# Altium integrated library ISSI SRAM Asynchronous SRAM Lower Power.IntLib: 204 symbols (part 6 of 9)
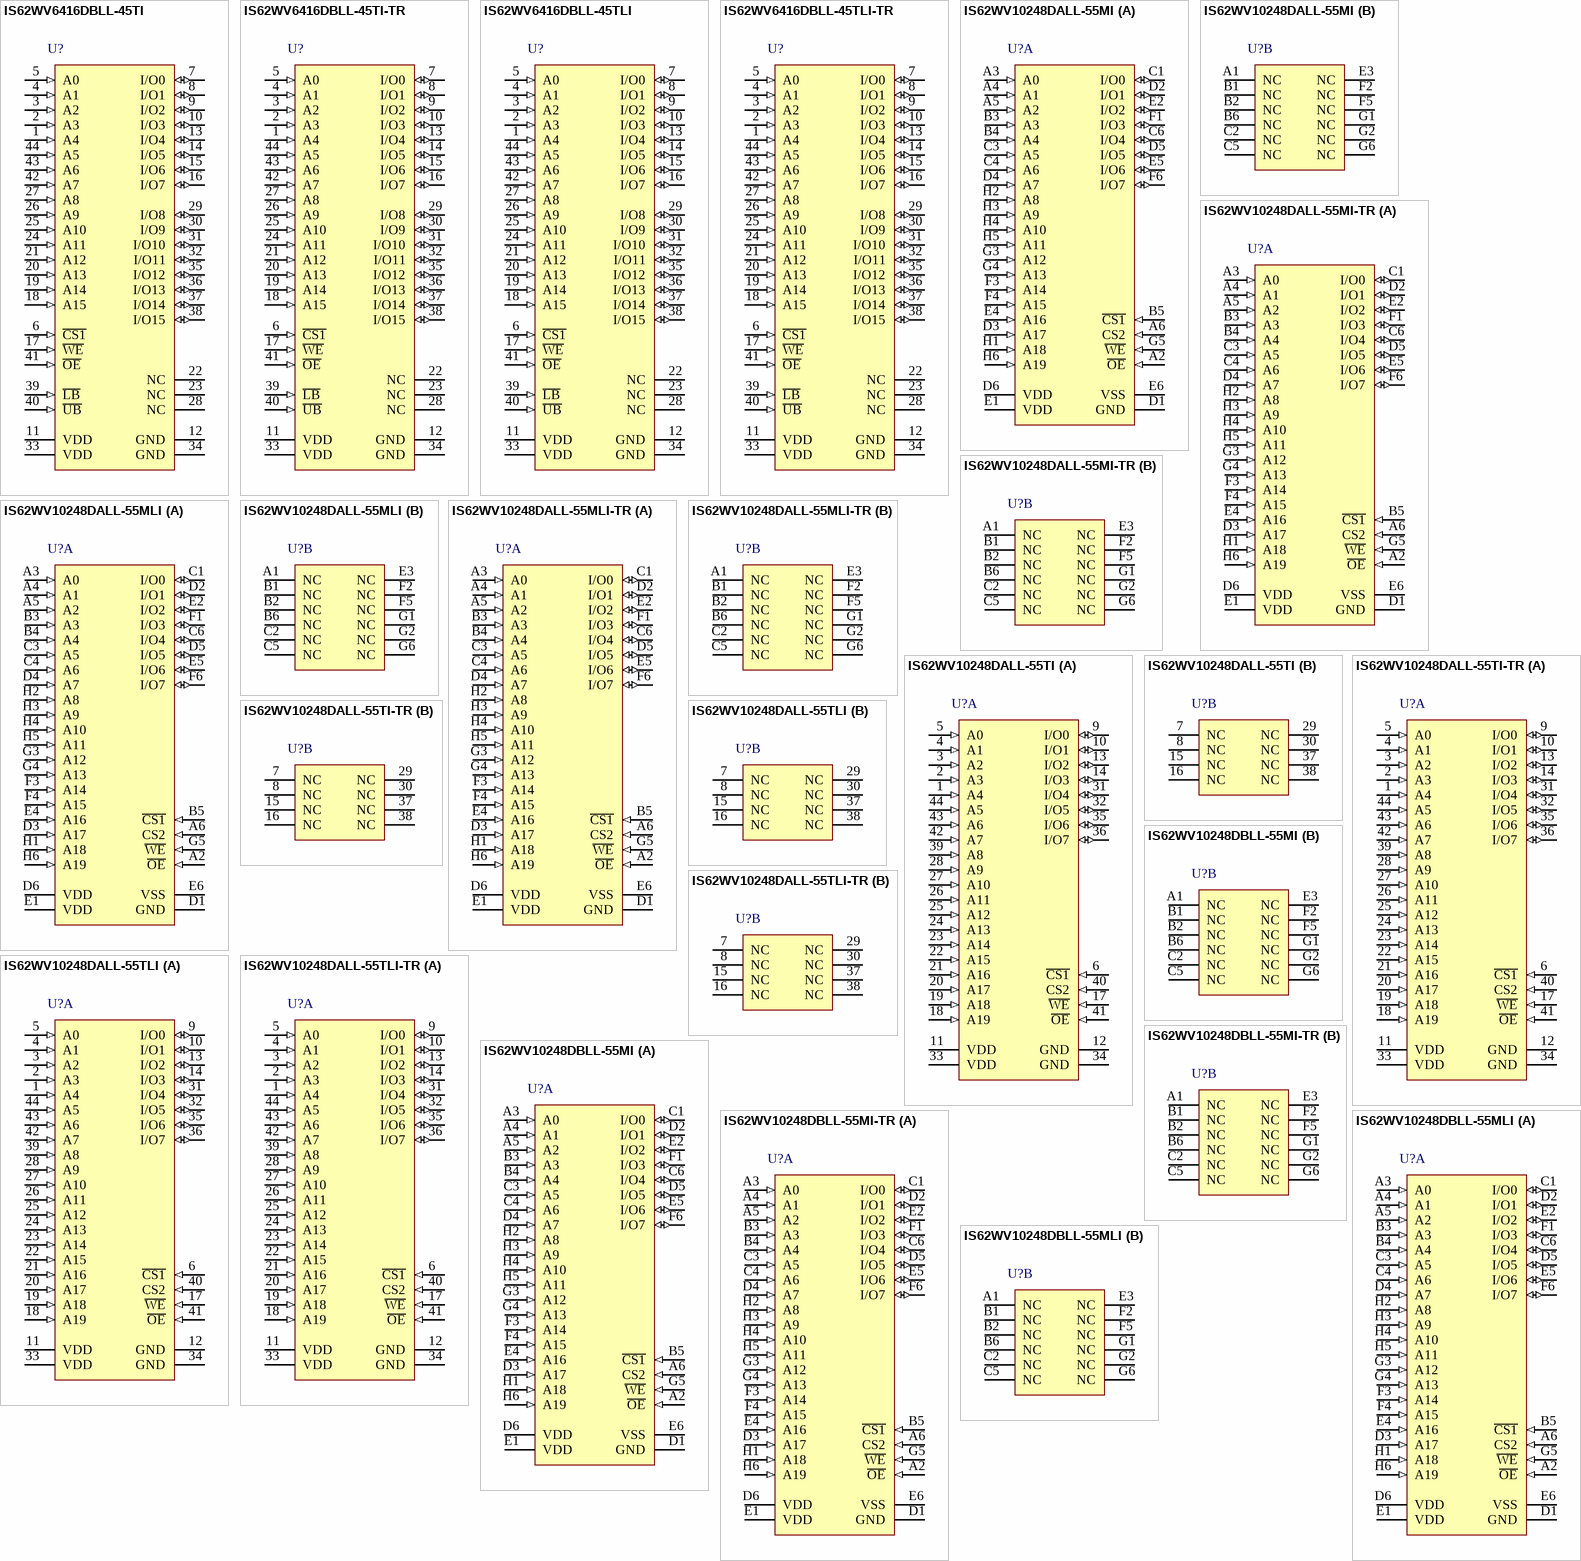
[diagram p16: symbols IS62WV6416DBLL-45TI to IS62WV10248DBLL-55MLI]

## IS62WV10248DALL-55TLI
designator U?
8 M Low Voltage, Ultra Low Power CMOS SRAM, 1 M x 8, -40 to 85 degC, 44-Pin SOP (TSOP-2-44), Pb-Free; Manufacturer: Integrated Silicon Solution Inc (ISSI); PartNumber: IS62WV10248DALL-55TLI; Density: 8M; Organization: 1M x 8; Packing: Tray / Tube; Speed (ns): 55; DatasheetVersion: Rev. A; PackageVersion: Rev. F, 06/2008; PackageReference: TSOP-2-44; PackageDescription: 44-Pin 400 mil TSOP-2, Body 18.41 x 10.16 mm, Pitch 0.8 mm; RoHS: Pb-Free; Mounting Technology: Surface Mount; ComponentLink1Description: Manufacturer URL; ComponentLink1URL: http://www.issi.com/US/index.shtml; ComponentLink2Description: Datasheet; ComponentLink2URL: http://www.issi.com/WW/pdf/62-65WV10248DALL-BLL.pdf; ComponentLink3Description: Package Specification; ComponentLink3URL: http://www.issi.com/WW/pdf/61-64WV6416EEBLL.pdf
footprint ISSI-TSOP-2-44_N (SOP, 44-Leads, Body 18.5x10.3mm, Pitch 0.8mm, IPC Medium Density)
part A pins: 1 A4 (in) "Address Input", 2 A3 (in) "Address Input", 3 A2 (in) "Address Input", 4 A1 (in) "Address Input", 5 A0 (in) "Address Input", 6 ~{CS1} (in) "Chip Enable 1 Input", 9 I/O0 (io) "Input/Output", 10 I/O1 (io) "Input/Output", 11 VDD (power) "Power", 12 GND (power) "Ground", 13 I/O2 (io) "Input/Output", 14 I/O3 (io) "Input/Output", 17 ~{WE} (in) "Write Enable Input", 18 A19 (in) "Address Input", 19 A18 (in) "Address Input", 20 A17 (in) "Address Input", 21 A16 (in) "Address Input", 22 A15 (in) "Address Input", 23 A14 (in) "Address Input", 24 A13 (in) "Address Input", 25 A12 (in) "Address Input", 26 A11 (in) "Address Input", 27 A10 (in) "Address Input", 28 A9 (in) "Address Input", 31 I/O4 (io) "Input/Output", 32 I/O5 (io) "Input/Output", 33 VDD (power) "Power", 34 GND (power) "Ground", 35 I/O6 (io) "Input/Output", 36 I/O7 (io) "Input/Output", 39 A8 (in) "Address Input", 40 CS2 (in) "Chip Enable 2 Input", 41 ~{OE} (in) "Output Enable Input", 42 A7 (in) "Address Input", 43 A6 (in) "Address Input", 44 A5 (in) "Address Input"
part B pins: 7 NC "No Connection", 8 NC "No Connection", 15 NC "No Connection", 16 NC "No Connection", 29 NC "No Connection", 30 NC "No Connection", 37 NC "No Connection", 38 NC "No Connection"

## IS62WV10248DALL-55TLI-TR
designator U?
8 M Low Voltage, Ultra Low Power CMOS SRAM, 1 M x 8, -40 to 85 degC, 44-Pin SOP (TSOP-2-44), Pb-Free; Manufacturer: Integrated Silicon Solution Inc (ISSI); PartNumber: IS62WV10248DALL-55TLI-TR; Density: 8M; Organization: 1M x 8; Packing: Tape & Reel; Speed (ns): 55; DatasheetVersion: Rev. A; PackageVersion: Rev. F, 06/2008; PackageReference: TSOP-2-44; PackageDescription: 44-Pin 400 mil TSOP-2, Body 18.41 x 10.16 mm, Pitch 0.8 mm; RoHS: Pb-Free; Mounting Technology: Surface Mount; ComponentLink1Description: Manufacturer URL; ComponentLink1URL: http://www.issi.com/US/index.shtml; ComponentLink2Description: Datasheet; ComponentLink2URL: http://www.issi.com/WW/pdf/62-65WV10248DALL-BLL.pdf; ComponentLink3Description: Package Specification; ComponentLink3URL: http://www.issi.com/WW/pdf/61-64WV6416EEBLL.pdf
footprint ISSI-TSOP-2-44_N (SOP, 44-Leads, Body 18.5x10.3mm, Pitch 0.8mm, IPC Medium Density)
part A pins: 1 A4 (in) "Address Input", 2 A3 (in) "Address Input", 3 A2 (in) "Address Input", 4 A1 (in) "Address Input", 5 A0 (in) "Address Input", 6 ~{CS1} (in) "Chip Enable 1 Input", 9 I/O0 (io) "Input/Output", 10 I/O1 (io) "Input/Output", 11 VDD (power) "Power", 12 GND (power) "Ground", 13 I/O2 (io) "Input/Output", 14 I/O3 (io) "Input/Output", 17 ~{WE} (in) "Write Enable Input", 18 A19 (in) "Address Input", 19 A18 (in) "Address Input", 20 A17 (in) "Address Input", 21 A16 (in) "Address Input", 22 A15 (in) "Address Input", 23 A14 (in) "Address Input", 24 A13 (in) "Address Input", 25 A12 (in) "Address Input", 26 A11 (in) "Address Input", 27 A10 (in) "Address Input", 28 A9 (in) "Address Input", 31 I/O4 (io) "Input/Output", 32 I/O5 (io) "Input/Output", 33 VDD (power) "Power", 34 GND (power) "Ground", 35 I/O6 (io) "Input/Output", 36 I/O7 (io) "Input/Output", 39 A8 (in) "Address Input", 40 CS2 (in) "Chip Enable 2 Input", 41 ~{OE} (in) "Output Enable Input", 42 A7 (in) "Address Input", 43 A6 (in) "Address Input", 44 A5 (in) "Address Input"
part B pins: 7 NC "No Connection", 8 NC "No Connection", 15 NC "No Connection", 16 NC "No Connection", 29 NC "No Connection", 30 NC "No Connection", 37 NC "No Connection", 38 NC "No Connection"

## IS62WV10248DBLL-55MI
designator U?
8 M Low Voltage, Ultra Low Power CMOS SRAM, 1 M x 8, -40 to 85 degC, 48-Pin BGA (TF-BGA-48); Manufacturer: Integrated Silicon Solution Inc (ISSI); PartNumber: IS62WV10248DBLL-55MI; Density: 8M; Organization: 1M x 8; Packing: Tray / Tube; Speed (ns): 55; DatasheetVersion: Rev. A; PackageVersion: Rev. B, 08/2008; PackageReference: TF-BGA-48; PackageDescription: 48-Pin 9 x 11 mm TF-BGA, Pitch 0.75 mm; Mounting Technology: Surface Mount; Code_JEDEC: MO-207; ComponentLink1Description: Manufacturer URL; ComponentLink1URL: http://www.issi.com/US/index.shtml; ComponentLink2Description: Datasheet; ComponentLink2URL: http://www.issi.com/WW/pdf/62-65WV10248DALL-BLL.pdf; ComponentLink3Description: Package Specification; ComponentLink3URL: http://www.issi.com/WW/pdf/61-64WV51216.pdf
footprint ISSI-TF-BGA-48-9000x11000DE (BGA, 48-Balls, Body 11x9mm, Pitch 0.75mm)
part A pins: A2 ~{OE} (in) "Output Enable Input", A3 A0 (in) "Address Input", A4 A1 (in) "Address Input", A5 A2 (in) "Address Input", A6 CS2 (in) "Chip Enable 2 Input", B3 A3 (in) "Address Input", B4 A4 (in) "Address Input", B5 ~{CS1} (in) "Chip Enable 1 Input", C1 I/O0 (io) "Input/Output", C3 A5 (in) "Address Input", C4 A6 (in) "Address Input", C6 I/O4 (io) "Input/Output", D1 GND (power) "Ground", D2 I/O1 (io) "Input/Output", D3 A17 (in) "Address Input", D4 A7 (in) "Address Input", D5 I/O5 (io) "Input/Output", D6 VDD (power) "Power", E1 VDD (power) "Power", E2 I/O2 (io) "Input/Output", E4 A16 (in) "Address Input", E5 I/O6 (io) "Input/Output", E6 VSS (power), F1 I/O3 (io) "Input/Output", F3 A14 (in) "Address Input", F4 A15 (in) "Address Input", F6 I/O7 (io) "Input/Output", G3 A12 (in) "Address Input", G4 A13 (in) "Address Input", G5 ~{WE} (in) "Write Enable Input", H1 A18 (in) "Address Input", H2 A8 (in) "Address Input", H3 A9 (in) "Address Input", H4 A10 (in) "Address Input", H5 A11 (in) "Address Input", H6 A19 (in) "Address Input"
part B pins: A1 NC "No Connection", B1 NC "No Connection", B2 NC "No Connection", B6 NC "No Connection", C2 NC "No Connection", C5 NC "No Connection", E3 NC "No Connection", F2 NC "No Connection", F5 NC "No Connection", G1 NC "No Connection", G2 NC "No Connection", G6 NC "No Connection"

## IS62WV10248DBLL-55MI-TR
designator U?
8 M Low Voltage, Ultra Low Power CMOS SRAM, 1 M x 8, -40 to 85 degC, 48-Pin BGA (TF-BGA-48); Manufacturer: Integrated Silicon Solution Inc (ISSI); PartNumber: IS62WV10248DBLL-55MI-TR; Density: 8M; Organization: 1M x 8; Packing: Tape & Reel; Speed (ns): 55; DatasheetVersion: Rev. A; PackageVersion: Rev. B, 08/2008; PackageReference: TF-BGA-48; PackageDescription: 48-Pin 9 x 11 mm TF-BGA, Pitch 0.75 mm; Mounting Technology: Surface Mount; Code_JEDEC: MO-207; ComponentLink1Description: Manufacturer URL; ComponentLink1URL: http://www.issi.com/US/index.shtml; ComponentLink2Description: Datasheet; ComponentLink2URL: http://www.issi.com/WW/pdf/62-65WV10248DALL-BLL.pdf; ComponentLink3Description: Package Specification; ComponentLink3URL: http://www.issi.com/WW/pdf/61-64WV51216.pdf
footprint ISSI-TF-BGA-48-9000x11000DE (BGA, 48-Balls, Body 11x9mm, Pitch 0.75mm)
part A pins: A2 ~{OE} (in) "Output Enable Input", A3 A0 (in) "Address Input", A4 A1 (in) "Address Input", A5 A2 (in) "Address Input", A6 CS2 (in) "Chip Enable 2 Input", B3 A3 (in) "Address Input", B4 A4 (in) "Address Input", B5 ~{CS1} (in) "Chip Enable 1 Input", C1 I/O0 (io) "Input/Output", C3 A5 (in) "Address Input", C4 A6 (in) "Address Input", C6 I/O4 (io) "Input/Output", D1 GND (power) "Ground", D2 I/O1 (io) "Input/Output", D3 A17 (in) "Address Input", D4 A7 (in) "Address Input", D5 I/O5 (io) "Input/Output", D6 VDD (power) "Power", E1 VDD (power) "Power", E2 I/O2 (io) "Input/Output", E4 A16 (in) "Address Input", E5 I/O6 (io) "Input/Output", E6 VSS (power), F1 I/O3 (io) "Input/Output", F3 A14 (in) "Address Input", F4 A15 (in) "Address Input", F6 I/O7 (io) "Input/Output", G3 A12 (in) "Address Input", G4 A13 (in) "Address Input", G5 ~{WE} (in) "Write Enable Input", H1 A18 (in) "Address Input", H2 A8 (in) "Address Input", H3 A9 (in) "Address Input", H4 A10 (in) "Address Input", H5 A11 (in) "Address Input", H6 A19 (in) "Address Input"
part B pins: A1 NC "No Connection", B1 NC "No Connection", B2 NC "No Connection", B6 NC "No Connection", C2 NC "No Connection", C5 NC "No Connection", E3 NC "No Connection", F2 NC "No Connection", F5 NC "No Connection", G1 NC "No Connection", G2 NC "No Connection", G6 NC "No Connection"

## IS62WV10248DBLL-55MLI
designator U?
8 M Low Voltage, Ultra Low Power CMOS SRAM, 1 M x 8, -40 to 85 degC, 48-Pin BGA (TF-BGA-48), Pb-Free; Manufacturer: Integrated Silicon Solution Inc (ISSI); PartNumber: IS62WV10248DBLL-55MLI; Density: 8M; Organization: 1M x 8; Packing: Tray / Tube; Speed (ns): 55; DatasheetVersion: Rev. A; PackageVersion: Rev. B, 08/2008; PackageReference: TF-BGA-48; PackageDescription: 48-Pin 9 x 11 mm TF-BGA, Pitch 0.75 mm; Supplier 1: Mouser; Supplier Part Number 1: 870-62WV10248DB5MLI; RoHS: Pb-Free; Mounting Technology: Surface Mount; Code_JEDEC: MO-207; ComponentLink1Description: Manufacturer URL; ComponentLink1URL: http://www.issi.com/US/index.shtml; ComponentLink2Description: Datasheet; ComponentLink2URL: http://www.issi.com/WW/pdf/62-65WV10248DALL-BLL.pdf; ComponentLink3Description: Package Specification; ComponentLink3URL: http://www.issi.com/WW/pdf/61-64WV51216.pdf
footprint ISSI-TF-BGA-48-9000x11000DE (BGA, 48-Balls, Body 11x9mm, Pitch 0.75mm)
part A pins: A2 ~{OE} (in) "Output Enable Input", A3 A0 (in) "Address Input", A4 A1 (in) "Address Input", A5 A2 (in) "Address Input", A6 CS2 (in) "Chip Enable 2 Input", B3 A3 (in) "Address Input", B4 A4 (in) "Address Input", B5 ~{CS1} (in) "Chip Enable 1 Input", C1 I/O0 (io) "Input/Output", C3 A5 (in) "Address Input", C4 A6 (in) "Address Input", C6 I/O4 (io) "Input/Output", D1 GND (power) "Ground", D2 I/O1 (io) "Input/Output", D3 A17 (in) "Address Input", D4 A7 (in) "Address Input", D5 I/O5 (io) "Input/Output", D6 VDD (power) "Power", E1 VDD (power) "Power", E2 I/O2 (io) "Input/Output", E4 A16 (in) "Address Input", E5 I/O6 (io) "Input/Output", E6 VSS (power), F1 I/O3 (io) "Input/Output", F3 A14 (in) "Address Input", F4 A15 (in) "Address Input", F6 I/O7 (io) "Input/Output", G3 A12 (in) "Address Input", G4 A13 (in) "Address Input", G5 ~{WE} (in) "Write Enable Input", H1 A18 (in) "Address Input", H2 A8 (in) "Address Input", H3 A9 (in) "Address Input", H4 A10 (in) "Address Input", H5 A11 (in) "Address Input", H6 A19 (in) "Address Input"
part B pins: A1 NC "No Connection", B1 NC "No Connection", B2 NC "No Connection", B6 NC "No Connection", C2 NC "No Connection", C5 NC "No Connection", E3 NC "No Connection", F2 NC "No Connection", F5 NC "No Connection", G1 NC "No Connection", G2 NC "No Connection", G6 NC "No Connection"

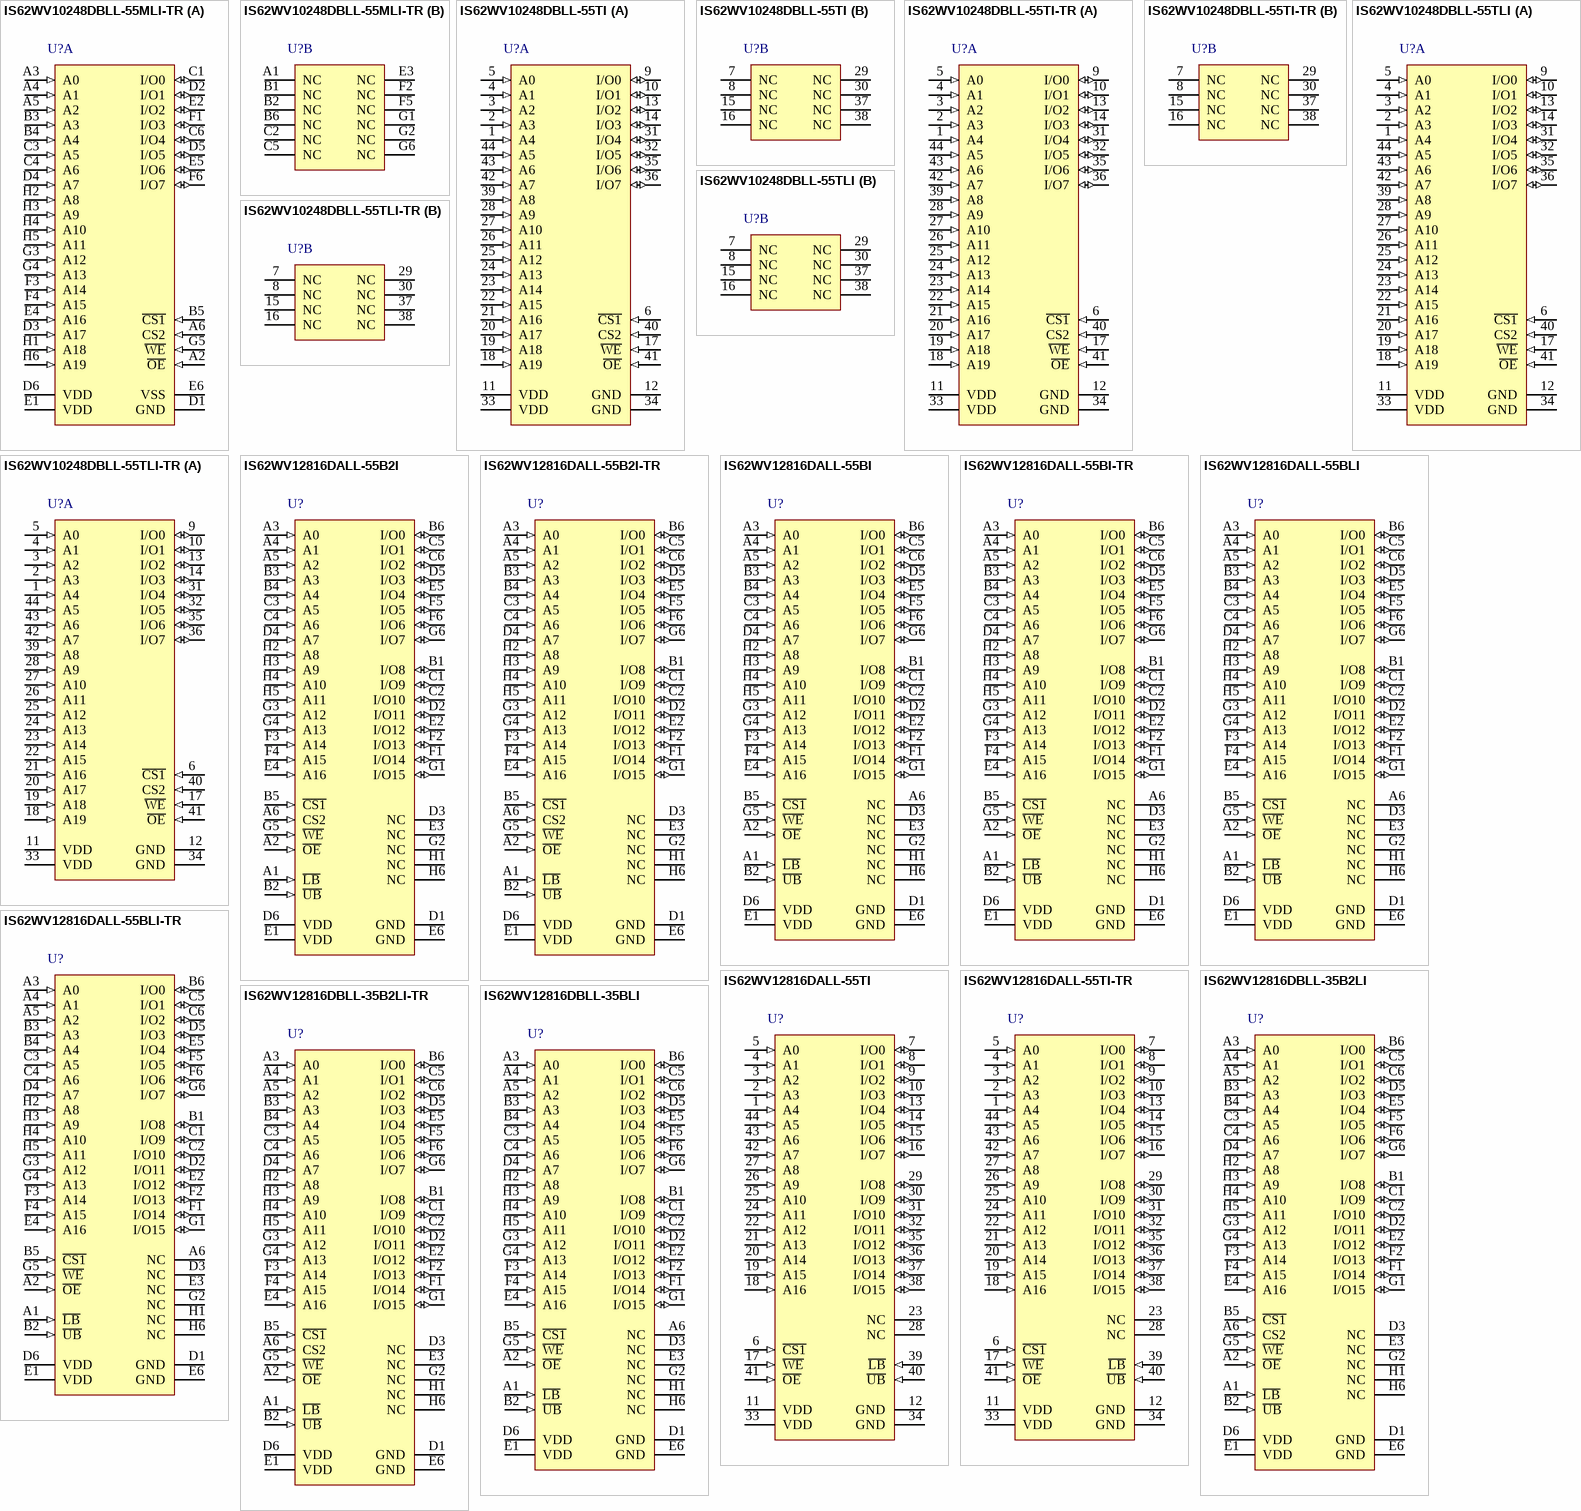
[diagram p7: symbols IS62WV10248DBLL-55MLI-TR to IS62WV12816DBLL-35BLI]

## IS62WV10248DBLL-55MLI-TR
designator U?
8 M Low Voltage, Ultra Low Power CMOS SRAM, 1 M x 8, -40 to 85 degC, 48-Pin BGA (TF-BGA-48), Pb-Free; Manufacturer: Integrated Silicon Solution Inc (ISSI); PartNumber: IS62WV10248DBLL-55MLI-TR; Density: 8M; Organization: 1M x 8; Packing: Tape & Reel; Speed (ns): 55; DatasheetVersion: Rev. A; PackageVersion: Rev. B, 08/2008; PackageReference: TF-BGA-48; PackageDescription: 48-Pin 9 x 11 mm TF-BGA, Pitch 0.75 mm; Supplier 1: Newark; Supplier Part Number 1: 71R6409; Supplier 2: Mouser; Supplier Part Number 2: 87062WV10248DB55MLIT; RoHS: Pb-Free; Mounting Technology: Surface Mount; Code_JEDEC: MO-207; ComponentLink1Description: Manufacturer URL; ComponentLink1URL: http://www.issi.com/US/index.shtml; ComponentLink2Description: Datasheet; ComponentLink2URL: http://www.issi.com/WW/pdf/62-65WV10248DALL-BLL.pdf; ComponentLink3Description: Package Specification; ComponentLink3URL: http://www.issi.com/WW/pdf/61-64WV51216.pdf
footprint ISSI-TF-BGA-48-9000x11000DE (BGA, 48-Balls, Body 11x9mm, Pitch 0.75mm)
part A pins: A2 ~{OE} (in) "Output Enable Input", A3 A0 (in) "Address Input", A4 A1 (in) "Address Input", A5 A2 (in) "Address Input", A6 CS2 (in) "Chip Enable 2 Input", B3 A3 (in) "Address Input", B4 A4 (in) "Address Input", B5 ~{CS1} (in) "Chip Enable 1 Input", C1 I/O0 (io) "Input/Output", C3 A5 (in) "Address Input", C4 A6 (in) "Address Input", C6 I/O4 (io) "Input/Output", D1 GND (power) "Ground", D2 I/O1 (io) "Input/Output", D3 A17 (in) "Address Input", D4 A7 (in) "Address Input", D5 I/O5 (io) "Input/Output", D6 VDD (power) "Power", E1 VDD (power) "Power", E2 I/O2 (io) "Input/Output", E4 A16 (in) "Address Input", E5 I/O6 (io) "Input/Output", E6 VSS (power), F1 I/O3 (io) "Input/Output", F3 A14 (in) "Address Input", F4 A15 (in) "Address Input", F6 I/O7 (io) "Input/Output", G3 A12 (in) "Address Input", G4 A13 (in) "Address Input", G5 ~{WE} (in) "Write Enable Input", H1 A18 (in) "Address Input", H2 A8 (in) "Address Input", H3 A9 (in) "Address Input", H4 A10 (in) "Address Input", H5 A11 (in) "Address Input", H6 A19 (in) "Address Input"
part B pins: A1 NC "No Connection", B1 NC "No Connection", B2 NC "No Connection", B6 NC "No Connection", C2 NC "No Connection", C5 NC "No Connection", E3 NC "No Connection", F2 NC "No Connection", F5 NC "No Connection", G1 NC "No Connection", G2 NC "No Connection", G6 NC "No Connection"

## IS62WV10248DBLL-55TI
designator U?
8 M Low Voltage, Ultra Low Power CMOS SRAM, 1 M x 8, -40 to 85 degC, 44-Pin SOP (TSOP-2-44); Manufacturer: Integrated Silicon Solution Inc (ISSI); PartNumber: IS62WV10248DBLL-55TI; Density: 8M; Organization: 1M x 8; Packing: Tray / Tube; Speed (ns): 55; DatasheetVersion: Rev. A; PackageVersion: Rev. F, 06/2008; PackageReference: TSOP-2-44; PackageDescription: 44-Pin 400 mil TSOP-2, Body 18.41 x 10.16 mm, Pitch 0.8 mm; Mounting Technology: Surface Mount; ComponentLink1Description: Manufacturer URL; ComponentLink1URL: http://www.issi.com/US/index.shtml; ComponentLink2Description: Datasheet; ComponentLink2URL: http://www.issi.com/WW/pdf/62-65WV10248DALL-BLL.pdf; ComponentLink3Description: Package Specification; ComponentLink3URL: http://www.issi.com/WW/pdf/61-64WV6416EEBLL.pdf
footprint ISSI-TSOP-2-44_N (SOP, 44-Leads, Body 18.5x10.3mm, Pitch 0.8mm, IPC Medium Density)
part A pins: 1 A4 (in) "Address Input", 2 A3 (in) "Address Input", 3 A2 (in) "Address Input", 4 A1 (in) "Address Input", 5 A0 (in) "Address Input", 6 ~{CS1} (in) "Chip Enable 1 Input", 9 I/O0 (io) "Input/Output", 10 I/O1 (io) "Input/Output", 11 VDD (power) "Power", 12 GND (power) "Ground", 13 I/O2 (io) "Input/Output", 14 I/O3 (io) "Input/Output", 17 ~{WE} (in) "Write Enable Input", 18 A19 (in) "Address Input", 19 A18 (in) "Address Input", 20 A17 (in) "Address Input", 21 A16 (in) "Address Input", 22 A15 (in) "Address Input", 23 A14 (in) "Address Input", 24 A13 (in) "Address Input", 25 A12 (in) "Address Input", 26 A11 (in) "Address Input", 27 A10 (in) "Address Input", 28 A9 (in) "Address Input", 31 I/O4 (io) "Input/Output", 32 I/O5 (io) "Input/Output", 33 VDD (power) "Power", 34 GND (power) "Ground", 35 I/O6 (io) "Input/Output", 36 I/O7 (io) "Input/Output", 39 A8 (in) "Address Input", 40 CS2 (in) "Chip Enable 2 Input", 41 ~{OE} (in) "Output Enable Input", 42 A7 (in) "Address Input", 43 A6 (in) "Address Input", 44 A5 (in) "Address Input"
part B pins: 7 NC "No Connection", 8 NC "No Connection", 15 NC "No Connection", 16 NC "No Connection", 29 NC "No Connection", 30 NC "No Connection", 37 NC "No Connection", 38 NC "No Connection"

## IS62WV10248DBLL-55TI-TR
designator U?
8 M Low Voltage, Ultra Low Power CMOS SRAM, 1 M x 8, -40 to 85 degC, 44-Pin SOP (TSOP-2-44); Manufacturer: Integrated Silicon Solution Inc (ISSI); PartNumber: IS62WV10248DBLL-55TI-TR; Density: 8M; Organization: 1M x 8; Packing: Tape & Reel; Speed (ns): 55; DatasheetVersion: Rev. A; PackageVersion: Rev. F, 06/2008; PackageReference: TSOP-2-44; PackageDescription: 44-Pin 400 mil TSOP-2, Body 18.41 x 10.16 mm, Pitch 0.8 mm; Mounting Technology: Surface Mount; ComponentLink1Description: Manufacturer URL; ComponentLink1URL: http://www.issi.com/US/index.shtml; ComponentLink2Description: Datasheet; ComponentLink2URL: http://www.issi.com/WW/pdf/62-65WV10248DALL-BLL.pdf; ComponentLink3Description: Package Specification; ComponentLink3URL: http://www.issi.com/WW/pdf/61-64WV6416EEBLL.pdf
footprint ISSI-TSOP-2-44_N (SOP, 44-Leads, Body 18.5x10.3mm, Pitch 0.8mm, IPC Medium Density)
part A pins: 1 A4 (in) "Address Input", 2 A3 (in) "Address Input", 3 A2 (in) "Address Input", 4 A1 (in) "Address Input", 5 A0 (in) "Address Input", 6 ~{CS1} (in) "Chip Enable 1 Input", 9 I/O0 (io) "Input/Output", 10 I/O1 (io) "Input/Output", 11 VDD (power) "Power", 12 GND (power) "Ground", 13 I/O2 (io) "Input/Output", 14 I/O3 (io) "Input/Output", 17 ~{WE} (in) "Write Enable Input", 18 A19 (in) "Address Input", 19 A18 (in) "Address Input", 20 A17 (in) "Address Input", 21 A16 (in) "Address Input", 22 A15 (in) "Address Input", 23 A14 (in) "Address Input", 24 A13 (in) "Address Input", 25 A12 (in) "Address Input", 26 A11 (in) "Address Input", 27 A10 (in) "Address Input", 28 A9 (in) "Address Input", 31 I/O4 (io) "Input/Output", 32 I/O5 (io) "Input/Output", 33 VDD (power) "Power", 34 GND (power) "Ground", 35 I/O6 (io) "Input/Output", 36 I/O7 (io) "Input/Output", 39 A8 (in) "Address Input", 40 CS2 (in) "Chip Enable 2 Input", 41 ~{OE} (in) "Output Enable Input", 42 A7 (in) "Address Input", 43 A6 (in) "Address Input", 44 A5 (in) "Address Input"
part B pins: 7 NC "No Connection", 8 NC "No Connection", 15 NC "No Connection", 16 NC "No Connection", 29 NC "No Connection", 30 NC "No Connection", 37 NC "No Connection", 38 NC "No Connection"

## IS62WV10248DBLL-55TLI
designator U?
8 M Low Voltage, Ultra Low Power CMOS SRAM, 1 M x 8, -40 to 85 degC, 44-Pin SOP (TSOP-2-44), Pb-Free; Manufacturer: Integrated Silicon Solution Inc (ISSI); PartNumber: IS62WV10248DBLL-55TLI; Density: 8M; Organization: 1M x 8; Packing: Tray / Tube; Speed (ns): 55; DatasheetVersion: Rev. A; PackageVersion: Rev. F, 06/2008; PackageReference: TSOP-2-44; PackageDescription: 44-Pin 400 mil TSOP-2, Body 18.41 x 10.16 mm, Pitch 0.8 mm; Supplier 1: Digi-Key; Supplier Part Number 1: 706-1149-ND; Supplier 2: Farnell; Supplier Part Number 2: 2253834; Supplier 3: Newark; Supplier Part Number 3: 53W9310; Supplier 4: Mouser; Supplier Part Number 4: 870-62WV10248DB55TLI; RoHS: Pb-Free; Mounting Technology: Surface Mount; ComponentLink1Description: Manufacturer URL; ComponentLink1URL: http://www.issi.com/US/index.shtml; ComponentLink2Description: Datasheet; ComponentLink2URL: http://www.issi.com/WW/pdf/62-65WV10248DALL-BLL.pdf; ComponentLink3Description: Package Specification; ComponentLink3URL: http://www.issi.com/WW/pdf/61-64WV6416EEBLL.pdf
footprint ISSI-TSOP-2-44_N (SOP, 44-Leads, Body 18.5x10.3mm, Pitch 0.8mm, IPC Medium Density)
part A pins: 1 A4 (in) "Address Input", 2 A3 (in) "Address Input", 3 A2 (in) "Address Input", 4 A1 (in) "Address Input", 5 A0 (in) "Address Input", 6 ~{CS1} (in) "Chip Enable 1 Input", 9 I/O0 (io) "Input/Output", 10 I/O1 (io) "Input/Output", 11 VDD (power) "Power", 12 GND (power) "Ground", 13 I/O2 (io) "Input/Output", 14 I/O3 (io) "Input/Output", 17 ~{WE} (in) "Write Enable Input", 18 A19 (in) "Address Input", 19 A18 (in) "Address Input", 20 A17 (in) "Address Input", 21 A16 (in) "Address Input", 22 A15 (in) "Address Input", 23 A14 (in) "Address Input", 24 A13 (in) "Address Input", 25 A12 (in) "Address Input", 26 A11 (in) "Address Input", 27 A10 (in) "Address Input", 28 A9 (in) "Address Input", 31 I/O4 (io) "Input/Output", 32 I/O5 (io) "Input/Output", 33 VDD (power) "Power", 34 GND (power) "Ground", 35 I/O6 (io) "Input/Output", 36 I/O7 (io) "Input/Output", 39 A8 (in) "Address Input", 40 CS2 (in) "Chip Enable 2 Input", 41 ~{OE} (in) "Output Enable Input", 42 A7 (in) "Address Input", 43 A6 (in) "Address Input", 44 A5 (in) "Address Input"
part B pins: 7 NC "No Connection", 8 NC "No Connection", 15 NC "No Connection", 16 NC "No Connection", 29 NC "No Connection", 30 NC "No Connection", 37 NC "No Connection", 38 NC "No Connection"

## IS62WV10248DBLL-55TLI-TR
designator U?
8 M Low Voltage, Ultra Low Power CMOS SRAM, 1 M x 8, -40 to 85 degC, 44-Pin SOP (TSOP-2-44), Pb-Free; Manufacturer: Integrated Silicon Solution Inc (ISSI); PartNumber: IS62WV10248DBLL-55TLI-TR; Density: 8M; Organization: 1M x 8; Packing: Tape & Reel; Speed (ns): 55; DatasheetVersion: Rev. A; PackageVersion: Rev. F, 06/2008; PackageReference: TSOP-2-44; PackageDescription: 44-Pin 400 mil TSOP-2, Body 18.41 x 10.16 mm, Pitch 0.8 mm; Supplier 1: Newark; Supplier Part Number 1: 71R6411; Supplier 2: Mouser; Supplier Part Number 2: 87062WV10248DB55TLIT; RoHS: Pb-Free; Mounting Technology: Surface Mount; ComponentLink1Description: Manufacturer URL; ComponentLink1URL: http://www.issi.com/US/index.shtml; ComponentLink2Description: Datasheet; ComponentLink2URL: http://www.issi.com/WW/pdf/62-65WV10248DALL-BLL.pdf; ComponentLink3Description: Package Specification; ComponentLink3URL: http://www.issi.com/WW/pdf/61-64WV6416EEBLL.pdf
footprint ISSI-TSOP-2-44_N (SOP, 44-Leads, Body 18.5x10.3mm, Pitch 0.8mm, IPC Medium Density)
part A pins: 1 A4 (in) "Address Input", 2 A3 (in) "Address Input", 3 A2 (in) "Address Input", 4 A1 (in) "Address Input", 5 A0 (in) "Address Input", 6 ~{CS1} (in) "Chip Enable 1 Input", 9 I/O0 (io) "Input/Output", 10 I/O1 (io) "Input/Output", 11 VDD (power) "Power", 12 GND (power) "Ground", 13 I/O2 (io) "Input/Output", 14 I/O3 (io) "Input/Output", 17 ~{WE} (in) "Write Enable Input", 18 A19 (in) "Address Input", 19 A18 (in) "Address Input", 20 A17 (in) "Address Input", 21 A16 (in) "Address Input", 22 A15 (in) "Address Input", 23 A14 (in) "Address Input", 24 A13 (in) "Address Input", 25 A12 (in) "Address Input", 26 A11 (in) "Address Input", 27 A10 (in) "Address Input", 28 A9 (in) "Address Input", 31 I/O4 (io) "Input/Output", 32 I/O5 (io) "Input/Output", 33 VDD (power) "Power", 34 GND (power) "Ground", 35 I/O6 (io) "Input/Output", 36 I/O7 (io) "Input/Output", 39 A8 (in) "Address Input", 40 CS2 (in) "Chip Enable 2 Input", 41 ~{OE} (in) "Output Enable Input", 42 A7 (in) "Address Input", 43 A6 (in) "Address Input", 44 A5 (in) "Address Input"
part B pins: 7 NC "No Connection", 8 NC "No Connection", 15 NC "No Connection", 16 NC "No Connection", 29 NC "No Connection", 30 NC "No Connection", 37 NC "No Connection", 38 NC "No Connection"

## IS62WV12816DALL-55B2I
designator U?
2 M Low Voltage, Ultra Low Power CMOS SRAM, 128 K x 16, -40 to 85 degC, 48-Pin BGA (TF-BGA-48); Manufacturer: Integrated Silicon Solution Inc (ISSI); PartNumber: IS62WV12816DALL-55B2I; Density: 2M; Packing: Tray / Tube; Speed (ns): 55; DatasheetVersion: Rev. A; PackageVersion: Rev. C, 08/2008; PackageReference: TF-BGA-48; PackageDescription: 48-Pin 6 x 8 mm TF-BGA, Pitch 0.75 mm; Organization: 128K x 16; Mounting Technology: Surface Mount; Code_JEDEC: MO-207; ComponentLink1Description: Manufacturer URL; ComponentLink1URL: http://www.issi.com/US/index.shtml; ComponentLink2Description: Datasheet; ComponentLink2URL: http://www.issi.com/WW/pdf/62-65WV12816DALL-DBLL.pdf; ComponentLink3Description: Package Specification; ComponentLink3URL: http://www.issi.com/WW/pdf/61-64WV25616.pdf
footprint ISSI-TF-BGA-48-6000X8000DE (BGA, 48-Balls, Body 8x6mm, Pitch 0.75mm)
pins: A1 ~{LB} (in) "Lower-byte Control (I/O0-I/O7)", A2 ~{OE} (in) "Output Enable Input", A3 A0 (in) "Address Input", A4 A1 (in) "Address Input", A5 A2 (in) "Address Input", A6 CS2 (in) "Chip Enable Input", B1 I/O8 (io) "Data Input/Output", B2 ~{UB} (in) "Upper-byte Control (I/O8-I/O15)", B3 A3 (in) "Address Input", B4 A4 (in) "Address Input", B5 ~{CS1} (in) "Chip Enable Input", B6 I/O0 (io) "Data Input/Output", C1 I/O9 (io) "Data Input/Output", C2 I/O10 (io) "Data Input/Output", C3 A5 (in) "Address Input", C4 A6 (in) "Address Input", C5 I/O1 (io) "Data Input/Output", C6 I/O2 (io) "Data Input/Output", D1 GND (power) "Ground", D2 I/O11 (io) "Data Input/Output", D3 NC "No Connection", D4 A7 (in) "Address Input", D5 I/O3 (io) "Data Input/Output", D6 VDD (power) "Power", E1 VDD (power) "Power", E2 I/O12 (io) "Data Input/Output", E3 NC "No Connection", E4 A16 (in) "Address Input", E5 I/O4 (io) "Data Input/Output", E6 GND (power) "Ground", F1 I/O14 (io) "Data Input/Output", F2 I/O13 (io) "Data Input/Output", F3 A14 (in) "Address Input", F4 A15 (in) "Address Input", F5 I/O5 (io) "Data Input/Output", F6 I/O6 (io) "Data Input/Output", G1 I/O15 (io) "Data Input/Output", G2 NC "No Connection", G3 A12 (in) "Address Input", G4 A13 (in) "Address Input", G5 ~{WE} (in) "Write Enable Input", G6 I/O7 (io) "Data Input/Output", H1 NC "No Connection", H2 A8 (in) "Address Input", H3 A9 (in) "Address Input", H4 A10 (in) "Address Input", H5 A11 (in) "Address Input", H6 NC "No Connection"

## IS62WV12816DALL-55B2I-TR
designator U?
2 M Low Voltage, Ultra Low Power CMOS SRAM, 128 K x 16, -40 to 85 degC, 48-Pin BGA (TF-BGA-48); Manufacturer: Integrated Silicon Solution Inc (ISSI); PartNumber: IS62WV12816DALL-55B2I-TR; Density: 2M; Packing: Tape & Reel; Speed (ns): 55; DatasheetVersion: Rev. A; PackageVersion: Rev. C, 08/2008; PackageReference: TF-BGA-48; PackageDescription: 48-Pin 6 x 8 mm TF-BGA, Pitch 0.75 mm; Organization: 128K x 16; Mounting Technology: Surface Mount; Code_JEDEC: MO-207; ComponentLink1Description: Manufacturer URL; ComponentLink1URL: http://www.issi.com/US/index.shtml; ComponentLink2Description: Datasheet; ComponentLink2URL: http://www.issi.com/WW/pdf/62-65WV12816DALL-DBLL.pdf; ComponentLink3Description: Package Specification; ComponentLink3URL: http://www.issi.com/WW/pdf/61-64WV25616.pdf
footprint ISSI-TF-BGA-48-6000X8000DE (BGA, 48-Balls, Body 8x6mm, Pitch 0.75mm)
pins: A1 ~{LB} (in) "Lower-byte Control (I/O0-I/O7)", A2 ~{OE} (in) "Output Enable Input", A3 A0 (in) "Address Input", A4 A1 (in) "Address Input", A5 A2 (in) "Address Input", A6 CS2 (in) "Chip Enable Input", B1 I/O8 (io) "Data Input/Output", B2 ~{UB} (in) "Upper-byte Control (I/O8-I/O15)", B3 A3 (in) "Address Input", B4 A4 (in) "Address Input", B5 ~{CS1} (in) "Chip Enable Input", B6 I/O0 (io) "Data Input/Output", C1 I/O9 (io) "Data Input/Output", C2 I/O10 (io) "Data Input/Output", C3 A5 (in) "Address Input", C4 A6 (in) "Address Input", C5 I/O1 (io) "Data Input/Output", C6 I/O2 (io) "Data Input/Output", D1 GND (power) "Ground", D2 I/O11 (io) "Data Input/Output", D3 NC "No Connection", D4 A7 (in) "Address Input", D5 I/O3 (io) "Data Input/Output", D6 VDD (power) "Power", E1 VDD (power) "Power", E2 I/O12 (io) "Data Input/Output", E3 NC "No Connection", E4 A16 (in) "Address Input", E5 I/O4 (io) "Data Input/Output", E6 GND (power) "Ground", F1 I/O14 (io) "Data Input/Output", F2 I/O13 (io) "Data Input/Output", F3 A14 (in) "Address Input", F4 A15 (in) "Address Input", F5 I/O5 (io) "Data Input/Output", F6 I/O6 (io) "Data Input/Output", G1 I/O15 (io) "Data Input/Output", G2 NC "No Connection", G3 A12 (in) "Address Input", G4 A13 (in) "Address Input", G5 ~{WE} (in) "Write Enable Input", G6 I/O7 (io) "Data Input/Output", H1 NC "No Connection", H2 A8 (in) "Address Input", H3 A9 (in) "Address Input", H4 A10 (in) "Address Input", H5 A11 (in) "Address Input", H6 NC "No Connection"

## IS62WV12816DALL-55BI
designator U?
2 M Low Voltage, Ultra Low Power CMOS SRAM, 128 K x 16, -40 to 85 degC, 48-Pin BGA (TF-BGA-48); Manufacturer: Integrated Silicon Solution Inc (ISSI); PartNumber: IS62WV12816DALL-55BI; Density: 2M; Packing: Tray / Tube; Speed (ns): 55; DatasheetVersion: Rev. A; PackageVersion: Rev. C, 08/2008; PackageReference: TF-BGA-48; PackageDescription: 48-Pin 6 x 8 mm TF-BGA, Pitch 0.75 mm; Organization: 128K x 16; Mounting Technology: Surface Mount; Code_JEDEC: MO-207; ComponentLink1Description: Manufacturer URL; ComponentLink1URL: http://www.issi.com/US/index.shtml; ComponentLink2Description: Datasheet; ComponentLink2URL: http://www.issi.com/WW/pdf/62-65WV12816DALL-DBLL.pdf; ComponentLink3Description: Package Specification; ComponentLink3URL: http://www.issi.com/WW/pdf/61-64WV25616.pdf
footprint ISSI-TF-BGA-48-6000X8000DE (BGA, 48-Balls, Body 8x6mm, Pitch 0.75mm)
pins: A1 ~{LB} (in) "Lower-byte Control (I/O0-I/O7)", A2 ~{OE} (in) "Output Enable Input", A3 A0 (in) "Address Input", A4 A1 (in) "Address Input", A5 A2 (in) "Address Input", A6 NC "No Connection", B1 I/O8 (io) "Data Input/Output", B2 ~{UB} (in) "Upper-byte Control (I/O8-I/O15)", B3 A3 (in) "Address Input", B4 A4 (in) "Address Input", B5 ~{CS1} (in) "Chip Enable Input", B6 I/O0 (io) "Data Input/Output", C1 I/O9 (io) "Data Input/Output", C2 I/O10 (io) "Data Input/Output", C3 A5 (in) "Address Input", C4 A6 (in) "Address Input", C5 I/O1 (io) "Data Input/Output", C6 I/O2 (io) "Data Input/Output", D1 GND (power) "Ground", D2 I/O11 (io) "Data Input/Output", D3 NC "No Connection", D4 A7 (in) "Address Input", D5 I/O3 (io) "Data Input/Output", D6 VDD (power) "Power", E1 VDD (power) "Power", E2 I/O12 (io) "Data Input/Output", E3 NC "No Connection", E4 A16 (in) "Address Input", E5 I/O4 (io) "Data Input/Output", E6 GND (power) "Ground", F1 I/O14 (io) "Data Input/Output", F2 I/O13 (io) "Data Input/Output", F3 A14 (in) "Address Input", F4 A15 (in) "Address Input", F5 I/O5 (io) "Data Input/Output", F6 I/O6 (io) "Data Input/Output", G1 I/O15 (io) "Data Input/Output", G2 NC "No Connection", G3 A12 (in) "Address Input", G4 A13 (in) "Address Input", G5 ~{WE} (in) "Write Enable Input", G6 I/O7 (io) "Data Input/Output", H1 NC "No Connection", H2 A8 (in) "Address Input", H3 A9 (in) "Address Input", H4 A10 (in) "Address Input", H5 A11 (in) "Address Input", H6 NC "No Connection"

## IS62WV12816DALL-55BI-TR
designator U?
2 M Low Voltage, Ultra Low Power CMOS SRAM, 128 K x 16, -40 to 85 degC, 48-Pin BGA (TF-BGA-48); Manufacturer: Integrated Silicon Solution Inc (ISSI); PartNumber: IS62WV12816DALL-55BI-TR; Density: 2M; Packing: Tape & Reel; Speed (ns): 55; DatasheetVersion: Rev. A; PackageVersion: Rev. C, 08/2008; PackageReference: TF-BGA-48; PackageDescription: 48-Pin 6 x 8 mm TF-BGA, Pitch 0.75 mm; Organization: 128K x 16; Mounting Technology: Surface Mount; Code_JEDEC: MO-207; ComponentLink1Description: Manufacturer URL; ComponentLink1URL: http://www.issi.com/US/index.shtml; ComponentLink2Description: Datasheet; ComponentLink2URL: http://www.issi.com/WW/pdf/62-65WV12816DALL-DBLL.pdf; ComponentLink3Description: Package Specification; ComponentLink3URL: http://www.issi.com/WW/pdf/61-64WV25616.pdf
footprint ISSI-TF-BGA-48-6000X8000DE (BGA, 48-Balls, Body 8x6mm, Pitch 0.75mm)
pins: A1 ~{LB} (in) "Lower-byte Control (I/O0-I/O7)", A2 ~{OE} (in) "Output Enable Input", A3 A0 (in) "Address Input", A4 A1 (in) "Address Input", A5 A2 (in) "Address Input", A6 NC "No Connection", B1 I/O8 (io) "Data Input/Output", B2 ~{UB} (in) "Upper-byte Control (I/O8-I/O15)", B3 A3 (in) "Address Input", B4 A4 (in) "Address Input", B5 ~{CS1} (in) "Chip Enable Input", B6 I/O0 (io) "Data Input/Output", C1 I/O9 (io) "Data Input/Output", C2 I/O10 (io) "Data Input/Output", C3 A5 (in) "Address Input", C4 A6 (in) "Address Input", C5 I/O1 (io) "Data Input/Output", C6 I/O2 (io) "Data Input/Output", D1 GND (power) "Ground", D2 I/O11 (io) "Data Input/Output", D3 NC "No Connection", D4 A7 (in) "Address Input", D5 I/O3 (io) "Data Input/Output", D6 VDD (power) "Power", E1 VDD (power) "Power", E2 I/O12 (io) "Data Input/Output", E3 NC "No Connection", E4 A16 (in) "Address Input", E5 I/O4 (io) "Data Input/Output", E6 GND (power) "Ground", F1 I/O14 (io) "Data Input/Output", F2 I/O13 (io) "Data Input/Output", F3 A14 (in) "Address Input", F4 A15 (in) "Address Input", F5 I/O5 (io) "Data Input/Output", F6 I/O6 (io) "Data Input/Output", G1 I/O15 (io) "Data Input/Output", G2 NC "No Connection", G3 A12 (in) "Address Input", G4 A13 (in) "Address Input", G5 ~{WE} (in) "Write Enable Input", G6 I/O7 (io) "Data Input/Output", H1 NC "No Connection", H2 A8 (in) "Address Input", H3 A9 (in) "Address Input", H4 A10 (in) "Address Input", H5 A11 (in) "Address Input", H6 NC "No Connection"

## IS62WV12816DALL-55BLI
designator U?
2 M Low Voltage, Ultra Low Power CMOS SRAM, 128 K x 16, -40 to 85 degC, 48-Pin BGA (TF-BGA-48), Pb-Free; Manufacturer: Integrated Silicon Solution Inc (ISSI); PartNumber: IS62WV12816DALL-55BLI; Density: 2M; Packing: Tray / Tube; Speed (ns): 55; DatasheetVersion: Rev. A; PackageVersion: Rev. C, 08/2008; PackageReference: TF-BGA-48; PackageDescription: 48-Pin 6 x 8 mm TF-BGA, Pitch 0.75 mm; Organization: 128K x 16; RoHS: Pb-Free; Mounting Technology: Surface Mount; Code_JEDEC: MO-207; ComponentLink1Description: Manufacturer URL; ComponentLink1URL: http://www.issi.com/US/index.shtml; ComponentLink2Description: Datasheet; ComponentLink2URL: http://www.issi.com/WW/pdf/62-65WV12816DALL-DBLL.pdf; ComponentLink3Description: Package Specification; ComponentLink3URL: http://www.issi.com/WW/pdf/61-64WV25616.pdf
footprint ISSI-TF-BGA-48-6000X8000DE (BGA, 48-Balls, Body 8x6mm, Pitch 0.75mm)
pins: A1 ~{LB} (in) "Lower-byte Control (I/O0-I/O7)", A2 ~{OE} (in) "Output Enable Input", A3 A0 (in) "Address Input", A4 A1 (in) "Address Input", A5 A2 (in) "Address Input", A6 NC "No Connection", B1 I/O8 (io) "Data Input/Output", B2 ~{UB} (in) "Upper-byte Control (I/O8-I/O15)", B3 A3 (in) "Address Input", B4 A4 (in) "Address Input", B5 ~{CS1} (in) "Chip Enable Input", B6 I/O0 (io) "Data Input/Output", C1 I/O9 (io) "Data Input/Output", C2 I/O10 (io) "Data Input/Output", C3 A5 (in) "Address Input", C4 A6 (in) "Address Input", C5 I/O1 (io) "Data Input/Output", C6 I/O2 (io) "Data Input/Output", D1 GND (power) "Ground", D2 I/O11 (io) "Data Input/Output", D3 NC "No Connection", D4 A7 (in) "Address Input", D5 I/O3 (io) "Data Input/Output", D6 VDD (power) "Power", E1 VDD (power) "Power", E2 I/O12 (io) "Data Input/Output", E3 NC "No Connection", E4 A16 (in) "Address Input", E5 I/O4 (io) "Data Input/Output", E6 GND (power) "Ground", F1 I/O14 (io) "Data Input/Output", F2 I/O13 (io) "Data Input/Output", F3 A14 (in) "Address Input", F4 A15 (in) "Address Input", F5 I/O5 (io) "Data Input/Output", F6 I/O6 (io) "Data Input/Output", G1 I/O15 (io) "Data Input/Output", G2 NC "No Connection", G3 A12 (in) "Address Input", G4 A13 (in) "Address Input", G5 ~{WE} (in) "Write Enable Input", G6 I/O7 (io) "Data Input/Output", H1 NC "No Connection", H2 A8 (in) "Address Input", H3 A9 (in) "Address Input", H4 A10 (in) "Address Input", H5 A11 (in) "Address Input", H6 NC "No Connection"

## IS62WV12816DALL-55BLI-TR
designator U?
2 M Low Voltage, Ultra Low Power CMOS SRAM, 128 K x 16, -40 to 85 degC, 48-Pin BGA (TF-BGA-48), Pb-Free; Manufacturer: Integrated Silicon Solution Inc (ISSI); PartNumber: IS62WV12816DALL-55BLI-TR; Density: 2M; Packing: Tape & Reel; Speed (ns): 55; DatasheetVersion: Rev. A; PackageVersion: Rev. C, 08/2008; PackageReference: TF-BGA-48; PackageDescription: 48-Pin 6 x 8 mm TF-BGA, Pitch 0.75 mm; Organization: 128K x 16; RoHS: Pb-Free; Mounting Technology: Surface Mount; Code_JEDEC: MO-207; ComponentLink1Description: Manufacturer URL; ComponentLink1URL: http://www.issi.com/US/index.shtml; ComponentLink2Description: Datasheet; ComponentLink2URL: http://www.issi.com/WW/pdf/62-65WV12816DALL-DBLL.pdf; ComponentLink3Description: Package Specification; ComponentLink3URL: http://www.issi.com/WW/pdf/61-64WV25616.pdf
footprint ISSI-TF-BGA-48-6000X8000DE (BGA, 48-Balls, Body 8x6mm, Pitch 0.75mm)
pins: A1 ~{LB} (in) "Lower-byte Control (I/O0-I/O7)", A2 ~{OE} (in) "Output Enable Input", A3 A0 (in) "Address Input", A4 A1 (in) "Address Input", A5 A2 (in) "Address Input", A6 NC "No Connection", B1 I/O8 (io) "Data Input/Output", B2 ~{UB} (in) "Upper-byte Control (I/O8-I/O15)", B3 A3 (in) "Address Input", B4 A4 (in) "Address Input", B5 ~{CS1} (in) "Chip Enable Input", B6 I/O0 (io) "Data Input/Output", C1 I/O9 (io) "Data Input/Output", C2 I/O10 (io) "Data Input/Output", C3 A5 (in) "Address Input", C4 A6 (in) "Address Input", C5 I/O1 (io) "Data Input/Output", C6 I/O2 (io) "Data Input/Output", D1 GND (power) "Ground", D2 I/O11 (io) "Data Input/Output", D3 NC "No Connection", D4 A7 (in) "Address Input", D5 I/O3 (io) "Data Input/Output", D6 VDD (power) "Power", E1 VDD (power) "Power", E2 I/O12 (io) "Data Input/Output", E3 NC "No Connection", E4 A16 (in) "Address Input", E5 I/O4 (io) "Data Input/Output", E6 GND (power) "Ground", F1 I/O14 (io) "Data Input/Output", F2 I/O13 (io) "Data Input/Output", F3 A14 (in) "Address Input", F4 A15 (in) "Address Input", F5 I/O5 (io) "Data Input/Output", F6 I/O6 (io) "Data Input/Output", G1 I/O15 (io) "Data Input/Output", G2 NC "No Connection", G3 A12 (in) "Address Input", G4 A13 (in) "Address Input", G5 ~{WE} (in) "Write Enable Input", G6 I/O7 (io) "Data Input/Output", H1 NC "No Connection", H2 A8 (in) "Address Input", H3 A9 (in) "Address Input", H4 A10 (in) "Address Input", H5 A11 (in) "Address Input", H6 NC "No Connection"

## IS62WV12816DALL-55TI
designator U?
2 M Low Voltage, Ultra Low Power CMOS SRAM, 128 K x 16, -40 to 85 degC, 44-Pin SOP (TSOP-2-44); Manufacturer: Integrated Silicon Solution Inc (ISSI); PartNumber: IS62WV12816DALL-55TI; Density: 2M; Packing: Tray / Tube; Speed (ns): 55; DatasheetVersion: Rev. A; PackageVersion: Rev. F, 06/2008; PackageReference: TSOP-2-44; PackageDescription: 44-Pin 400 mil TSOP-2, Body 18.41 x 10.16 mm, Pitch 0.8 mm; Organization: 128K x 16; Mounting Technology: Surface Mount; ComponentLink1Description: Manufacturer URL; ComponentLink1URL: http://www.issi.com/US/index.shtml; ComponentLink2Description: Datasheet; ComponentLink2URL: http://www.issi.com/WW/pdf/62-65WV12816DALL-DBLL.pdf; ComponentLink3Description: Package Specification; ComponentLink3URL: http://www.issi.com/WW/pdf/61-64WV6416EEBLL.pdf
footprint ISSI-TSOP-2-44_N (SOP, 44-Leads, Body 18.5x10.3mm, Pitch 0.8mm, IPC Medium Density)
pins: 1 A4 (in) "Address Input", 2 A3 (in) "Address Input", 3 A2 (in) "Address Input", 4 A1 (in) "Address Input", 5 A0 (in) "Address Input", 6 ~{CS1} (in) "Chip Enable Input", 7 I/O0 (io) "Data Input/Output", 8 I/O1 (io) "Data Input/Output", 9 I/O2 (io) "Data Input/Output", 10 I/O3 (io) "Data Input/Output", 11 VDD (power) "Power", 12 GND (power) "Ground", 13 I/O4 (io) "Data Input/Output", 14 I/O5 (io) "Data Input/Output", 15 I/O6 (io) "Data Input/Output", 16 I/O7 (io) "Data Input/Output", 17 ~{WE} (in) "Write Enable Input", 18 A16 (in) "Address Input", 19 A15 (in) "Address Input", 20 A14 (in) "Address Input", 21 A13 (in) "Address Input", 22 A12 (in) "Address Input", 23 NC "No Connection", 24 A11 (in) "Address Input", 25 A10 (in) "Address Input", 26 A9 (in) "Address Input", 27 A8 (in) "Address Input", 28 NC "No Connection", 29 I/O8 (io) "Data Input/Output", 30 I/O9 (io) "Data Input/Output", 31 I/O10 (io) "Data Input/Output", 32 I/O11 (io) "Data Input/Output", 33 VDD (power) "Power", 34 GND (power) "Ground", 35 I/O12 (io) "Data Input/Output", 36 I/O13 (io) "Data Input/Output", 37 I/O14 (io) "Data Input/Output", 38 I/O15 (io) "Data Input/Output", 39 ~{LB} (in) "Lower-byte Control (I/O0-I/O7)", 40 ~{UB} (in) "Upper-byte Control (I/O8-I/O15)", 41 ~{OE} (in) "Output Enable Input", 42 A7 (in) "Address Input", 43 A6 (in) "Address Input", 44 A5 (in) "Address Input"

## IS62WV12816DALL-55TI-TR
designator U?
2 M Low Voltage, Ultra Low Power CMOS SRAM, 128 K x 16, -40 to 85 degC, 44-Pin SOP (TSOP-2-44); Manufacturer: Integrated Silicon Solution Inc (ISSI); PartNumber: IS62WV12816DALL-55TI-TR; Density: 2M; Packing: Tape & Reel; Speed (ns): 55; DatasheetVersion: Rev. A; PackageVersion: Rev. F, 06/2008; PackageReference: TSOP-2-44; PackageDescription: 44-Pin 400 mil TSOP-2, Body 18.41 x 10.16 mm, Pitch 0.8 mm; Organization: 128K x 16; Mounting Technology: Surface Mount; ComponentLink1Description: Manufacturer URL; ComponentLink1URL: http://www.issi.com/US/index.shtml; ComponentLink2Description: Datasheet; ComponentLink2URL: http://www.issi.com/WW/pdf/62-65WV12816DALL-DBLL.pdf; ComponentLink3Description: Package Specification; ComponentLink3URL: http://www.issi.com/WW/pdf/61-64WV6416EEBLL.pdf
footprint ISSI-TSOP-2-44_N (SOP, 44-Leads, Body 18.5x10.3mm, Pitch 0.8mm, IPC Medium Density)
pins: 1 A4 (in) "Address Input", 2 A3 (in) "Address Input", 3 A2 (in) "Address Input", 4 A1 (in) "Address Input", 5 A0 (in) "Address Input", 6 ~{CS1} (in) "Chip Enable Input", 7 I/O0 (io) "Data Input/Output", 8 I/O1 (io) "Data Input/Output", 9 I/O2 (io) "Data Input/Output", 10 I/O3 (io) "Data Input/Output", 11 VDD (power) "Power", 12 GND (power) "Ground", 13 I/O4 (io) "Data Input/Output", 14 I/O5 (io) "Data Input/Output", 15 I/O6 (io) "Data Input/Output", 16 I/O7 (io) "Data Input/Output", 17 ~{WE} (in) "Write Enable Input", 18 A16 (in) "Address Input", 19 A15 (in) "Address Input", 20 A14 (in) "Address Input", 21 A13 (in) "Address Input", 22 A12 (in) "Address Input", 23 NC "No Connection", 24 A11 (in) "Address Input", 25 A10 (in) "Address Input", 26 A9 (in) "Address Input", 27 A8 (in) "Address Input", 28 NC "No Connection", 29 I/O8 (io) "Data Input/Output", 30 I/O9 (io) "Data Input/Output", 31 I/O10 (io) "Data Input/Output", 32 I/O11 (io) "Data Input/Output", 33 VDD (power) "Power", 34 GND (power) "Ground", 35 I/O12 (io) "Data Input/Output", 36 I/O13 (io) "Data Input/Output", 37 I/O14 (io) "Data Input/Output", 38 I/O15 (io) "Data Input/Output", 39 ~{LB} (in) "Lower-byte Control (I/O0-I/O7)", 40 ~{UB} (in) "Upper-byte Control (I/O8-I/O15)", 41 ~{OE} (in) "Output Enable Input", 42 A7 (in) "Address Input", 43 A6 (in) "Address Input", 44 A5 (in) "Address Input"

## IS62WV12816DBLL-35B2LI
designator U?
2 M Low Voltage, Ultra Low Power CMOS SRAM, 128 K x 16, -40 to 85 degC, 48-Pin BGA (TF-BGA-48), Pb-Free; Manufacturer: Integrated Silicon Solution Inc (ISSI); PartNumber: IS62WV12816DBLL-35B2LI; Density: 2M; Packing: Tray / Tube; Speed (ns): 35; DatasheetVersion: Rev. A; PackageVersion: Rev. C, 08/2008; PackageReference: TF-BGA-48; PackageDescription: 48-Pin 6 x 8 mm TF-BGA, Pitch 0.75 mm; Organization: 128K x 16; RoHS: Pb-Free; Mounting Technology: Surface Mount; Code_JEDEC: MO-207; ComponentLink1Description: Manufacturer URL; ComponentLink1URL: http://www.issi.com/US/index.shtml; ComponentLink2Description: Datasheet; ComponentLink2URL: http://www.issi.com/WW/pdf/62-65WV12816DALL-DBLL.pdf; ComponentLink3Description: Package Specification; ComponentLink3URL: http://www.issi.com/WW/pdf/61-64WV25616.pdf
footprint ISSI-TF-BGA-48-6000X8000DE (BGA, 48-Balls, Body 8x6mm, Pitch 0.75mm)
pins: A1 ~{LB} (in) "Lower-byte Control (I/O0-I/O7)", A2 ~{OE} (in) "Output Enable Input", A3 A0 (in) "Address Input", A4 A1 (in) "Address Input", A5 A2 (in) "Address Input", A6 CS2 (in) "Chip Enable Input", B1 I/O8 (io) "Data Input/Output", B2 ~{UB} (in) "Upper-byte Control (I/O8-I/O15)", B3 A3 (in) "Address Input", B4 A4 (in) "Address Input", B5 ~{CS1} (in) "Chip Enable Input", B6 I/O0 (io) "Data Input/Output", C1 I/O9 (io) "Data Input/Output", C2 I/O10 (io) "Data Input/Output", C3 A5 (in) "Address Input", C4 A6 (in) "Address Input", C5 I/O1 (io) "Data Input/Output", C6 I/O2 (io) "Data Input/Output", D1 GND (power) "Ground", D2 I/O11 (io) "Data Input/Output", D3 NC "No Connection", D4 A7 (in) "Address Input", D5 I/O3 (io) "Data Input/Output", D6 VDD (power) "Power", E1 VDD (power) "Power", E2 I/O12 (io) "Data Input/Output", E3 NC "No Connection", E4 A16 (in) "Address Input", E5 I/O4 (io) "Data Input/Output", E6 GND (power) "Ground", F1 I/O14 (io) "Data Input/Output", F2 I/O13 (io) "Data Input/Output", F3 A14 (in) "Address Input", F4 A15 (in) "Address Input", F5 I/O5 (io) "Data Input/Output", F6 I/O6 (io) "Data Input/Output", G1 I/O15 (io) "Data Input/Output", G2 NC "No Connection", G3 A12 (in) "Address Input", G4 A13 (in) "Address Input", G5 ~{WE} (in) "Write Enable Input", G6 I/O7 (io) "Data Input/Output", H1 NC "No Connection", H2 A8 (in) "Address Input", H3 A9 (in) "Address Input", H4 A10 (in) "Address Input", H5 A11 (in) "Address Input", H6 NC "No Connection"

## IS62WV12816DBLL-35B2LI-TR
designator U?
2 M Low Voltage, Ultra Low Power CMOS SRAM, 128 K x 16, -40 to 85 degC, 48-Pin BGA (TF-BGA-48), Pb-Free; Manufacturer: Integrated Silicon Solution Inc (ISSI); PartNumber: IS62WV12816DBLL-35B2LI-TR; Density: 2M; Packing: Tape & Reel; Speed (ns): 35; DatasheetVersion: Rev. A; PackageVersion: Rev. C, 08/2008; PackageReference: TF-BGA-48; PackageDescription: 48-Pin 6 x 8 mm TF-BGA, Pitch 0.75 mm; Organization: 128K x 16; RoHS: Pb-Free; Mounting Technology: Surface Mount; Code_JEDEC: MO-207; ComponentLink1Description: Manufacturer URL; ComponentLink1URL: http://www.issi.com/US/index.shtml; ComponentLink2Description: Datasheet; ComponentLink2URL: http://www.issi.com/WW/pdf/62-65WV12816DALL-DBLL.pdf; ComponentLink3Description: Package Specification; ComponentLink3URL: http://www.issi.com/WW/pdf/61-64WV25616.pdf
footprint ISSI-TF-BGA-48-6000X8000DE (BGA, 48-Balls, Body 8x6mm, Pitch 0.75mm)
pins: A1 ~{LB} (in) "Lower-byte Control (I/O0-I/O7)", A2 ~{OE} (in) "Output Enable Input", A3 A0 (in) "Address Input", A4 A1 (in) "Address Input", A5 A2 (in) "Address Input", A6 CS2 (in) "Chip Enable Input", B1 I/O8 (io) "Data Input/Output", B2 ~{UB} (in) "Upper-byte Control (I/O8-I/O15)", B3 A3 (in) "Address Input", B4 A4 (in) "Address Input", B5 ~{CS1} (in) "Chip Enable Input", B6 I/O0 (io) "Data Input/Output", C1 I/O9 (io) "Data Input/Output", C2 I/O10 (io) "Data Input/Output", C3 A5 (in) "Address Input", C4 A6 (in) "Address Input", C5 I/O1 (io) "Data Input/Output", C6 I/O2 (io) "Data Input/Output", D1 GND (power) "Ground", D2 I/O11 (io) "Data Input/Output", D3 NC "No Connection", D4 A7 (in) "Address Input", D5 I/O3 (io) "Data Input/Output", D6 VDD (power) "Power", E1 VDD (power) "Power", E2 I/O12 (io) "Data Input/Output", E3 NC "No Connection", E4 A16 (in) "Address Input", E5 I/O4 (io) "Data Input/Output", E6 GND (power) "Ground", F1 I/O14 (io) "Data Input/Output", F2 I/O13 (io) "Data Input/Output", F3 A14 (in) "Address Input", F4 A15 (in) "Address Input", F5 I/O5 (io) "Data Input/Output", F6 I/O6 (io) "Data Input/Output", G1 I/O15 (io) "Data Input/Output", G2 NC "No Connection", G3 A12 (in) "Address Input", G4 A13 (in) "Address Input", G5 ~{WE} (in) "Write Enable Input", G6 I/O7 (io) "Data Input/Output", H1 NC "No Connection", H2 A8 (in) "Address Input", H3 A9 (in) "Address Input", H4 A10 (in) "Address Input", H5 A11 (in) "Address Input", H6 NC "No Connection"

## IS62WV12816DBLL-35BLI
designator U?
2 M Low Voltage, Ultra Low Power CMOS SRAM, 128 K x 16, -40 to 85 degC, 48-Pin BGA (TF-BGA-48), Pb-Free; Manufacturer: Integrated Silicon Solution Inc (ISSI); PartNumber: IS62WV12816DBLL-35BLI; Density: 2M; Packing: Tray / Tube; Speed (ns): 35; DatasheetVersion: Rev. A; PackageVersion: Rev. C, 08/2008; PackageReference: TF-BGA-48; PackageDescription: 48-Pin 6 x 8 mm TF-BGA, Pitch 0.75 mm; Organization: 128K x 16; RoHS: Pb-Free; Mounting Technology: Surface Mount; Code_JEDEC: MO-207; ComponentLink1Description: Manufacturer URL; ComponentLink1URL: http://www.issi.com/US/index.shtml; ComponentLink2Description: Datasheet; ComponentLink2URL: http://www.issi.com/WW/pdf/62-65WV12816DALL-DBLL.pdf; ComponentLink3Description: Package Specification; ComponentLink3URL: http://www.issi.com/WW/pdf/61-64WV25616.pdf
footprint ISSI-TF-BGA-48-6000X8000DE (BGA, 48-Balls, Body 8x6mm, Pitch 0.75mm)
pins: A1 ~{LB} (in) "Lower-byte Control (I/O0-I/O7)", A2 ~{OE} (in) "Output Enable Input", A3 A0 (in) "Address Input", A4 A1 (in) "Address Input", A5 A2 (in) "Address Input", A6 NC "No Connection", B1 I/O8 (io) "Data Input/Output", B2 ~{UB} (in) "Upper-byte Control (I/O8-I/O15)", B3 A3 (in) "Address Input", B4 A4 (in) "Address Input", B5 ~{CS1} (in) "Chip Enable Input", B6 I/O0 (io) "Data Input/Output", C1 I/O9 (io) "Data Input/Output", C2 I/O10 (io) "Data Input/Output", C3 A5 (in) "Address Input", C4 A6 (in) "Address Input", C5 I/O1 (io) "Data Input/Output", C6 I/O2 (io) "Data Input/Output", D1 GND (power) "Ground", D2 I/O11 (io) "Data Input/Output", D3 NC "No Connection", D4 A7 (in) "Address Input", D5 I/O3 (io) "Data Input/Output", D6 VDD (power) "Power", E1 VDD (power) "Power", E2 I/O12 (io) "Data Input/Output", E3 NC "No Connection", E4 A16 (in) "Address Input", E5 I/O4 (io) "Data Input/Output", E6 GND (power) "Ground", F1 I/O14 (io) "Data Input/Output", F2 I/O13 (io) "Data Input/Output", F3 A14 (in) "Address Input", F4 A15 (in) "Address Input", F5 I/O5 (io) "Data Input/Output", F6 I/O6 (io) "Data Input/Output", G1 I/O15 (io) "Data Input/Output", G2 NC "No Connection", G3 A12 (in) "Address Input", G4 A13 (in) "Address Input", G5 ~{WE} (in) "Write Enable Input", G6 I/O7 (io) "Data Input/Output", H1 NC "No Connection", H2 A8 (in) "Address Input", H3 A9 (in) "Address Input", H4 A10 (in) "Address Input", H5 A11 (in) "Address Input", H6 NC "No Connection"

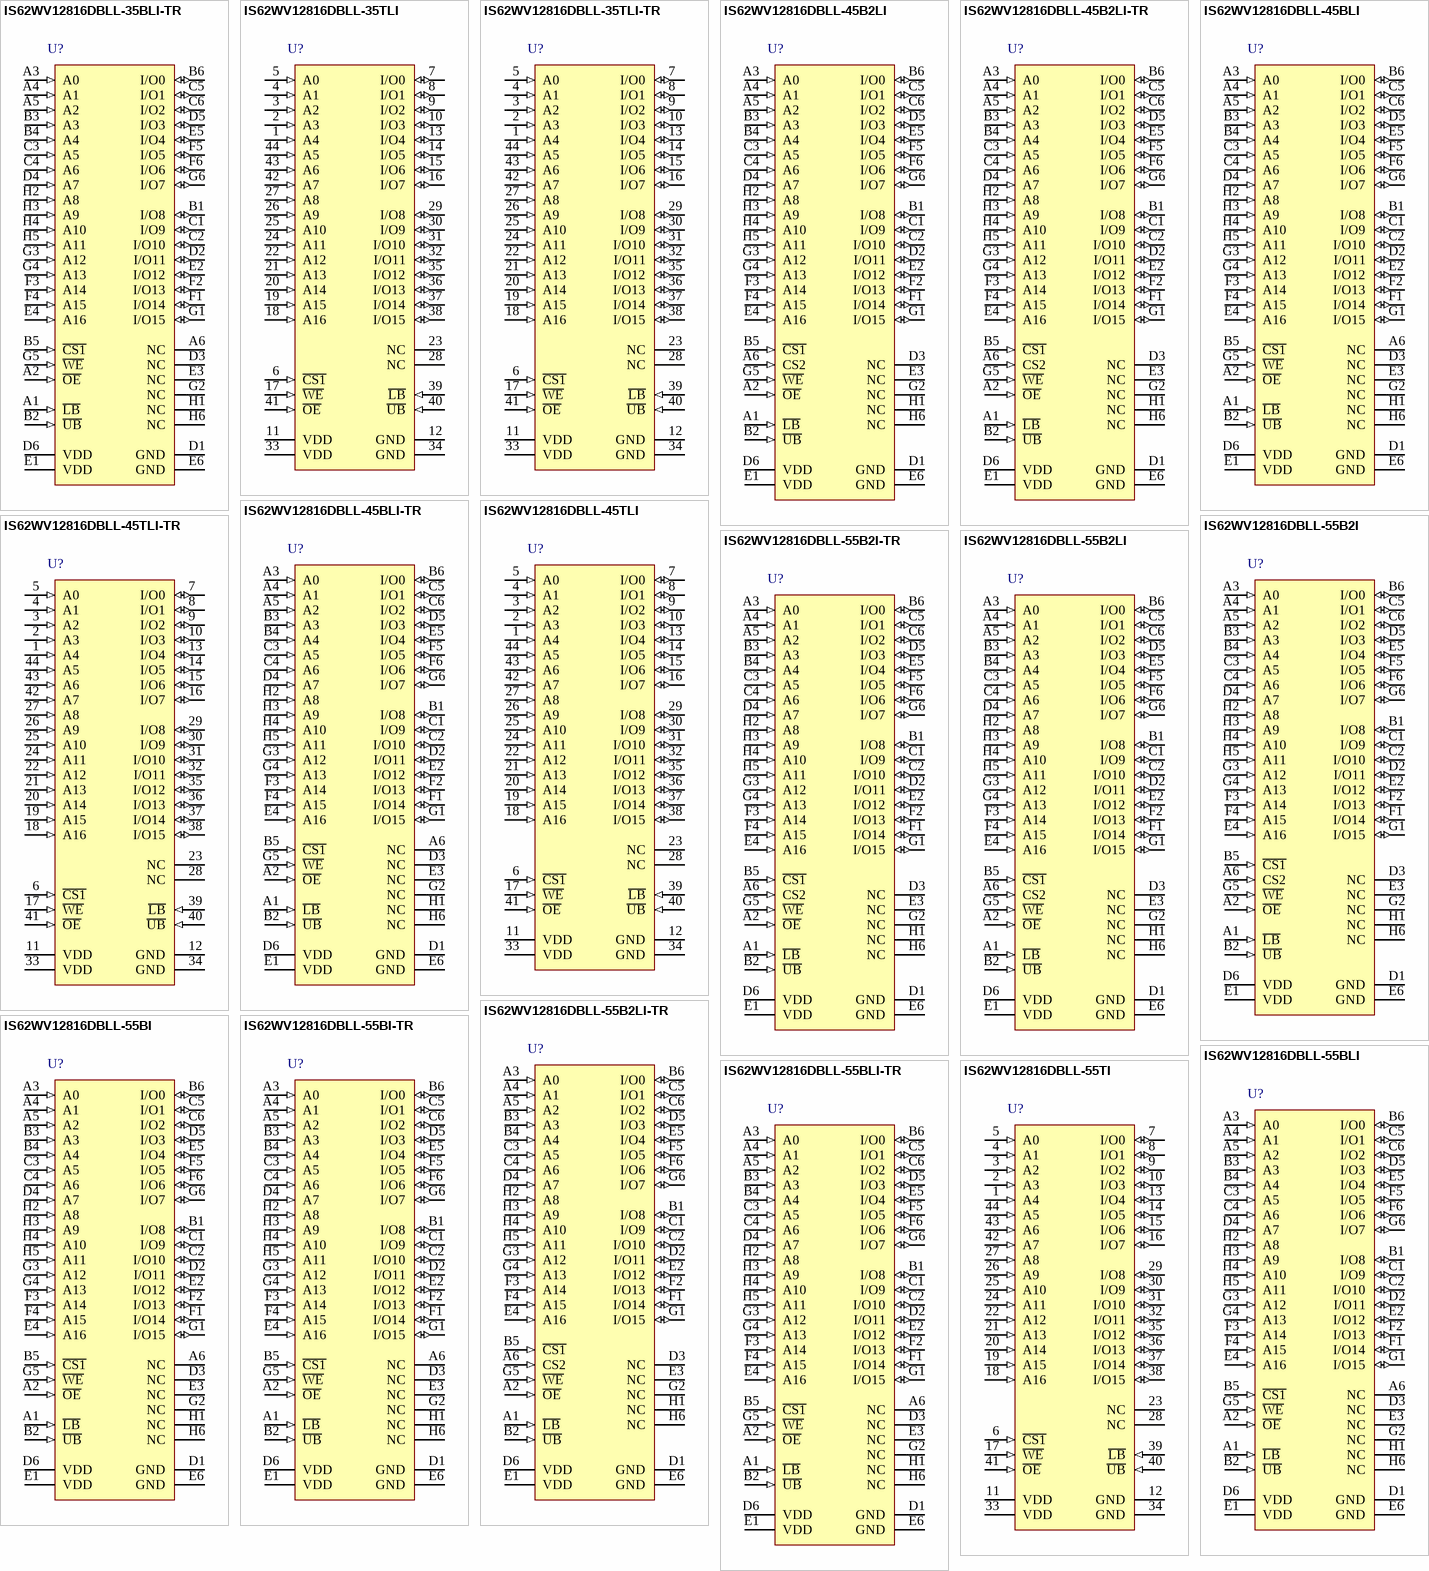
[diagram p8: symbols IS62WV12816DBLL-35BLI-TR to IS62WV12816DBLL-55TI]